# EAGLE library part LM9061N (library national)
DIL 8 pin Power MOSFET High-Side driver with lossless feedback Suitable for 24V systems and driving paralleled MOSFETS with high gate capacitance
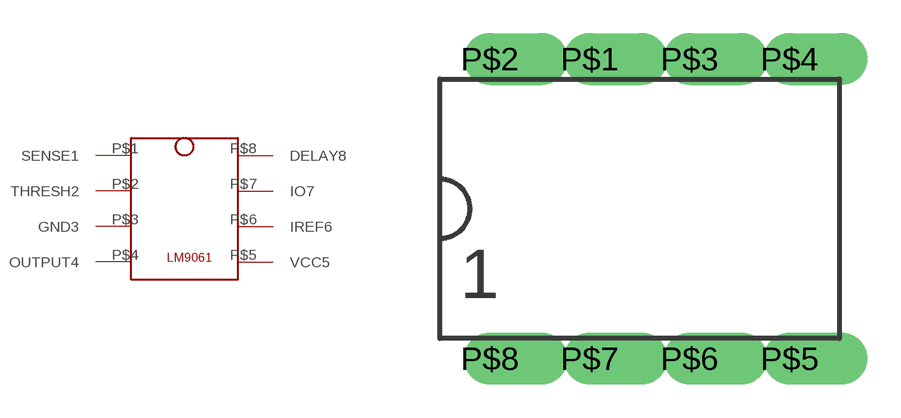
[diagram p1: symbol with the pads of DIL8; footprint DIL8]

Designator prefix -

## LM9061N  [DIL8]
P$1  SENSE1
P$2  THRESH2
P$3  GND3
P$4  OUTPUT4
P$5  VCC5
P$6  IREF6
P$7  IO7
P$8  DELAY8

## Footprint DIL8 (pad centres in mm)
Dual in-line 8 pin 0.1 inch centers
drill 0.813 offset: P$1 -1.27,3.81; P$2 -3.81,3.81; P$3 1.27,3.81; P$4 3.81,3.81; P$5 3.81,-3.81; P$6 1.27,-3.81; P$7 -1.27,-3.81; P$8 -3.81,-3.81